# Altium schematic symbol library EL-sense_Proximity_Light_Sensors.SchLib: 2 symbols
Pins are listed as number, name and electrical type; pins without a type are passive.

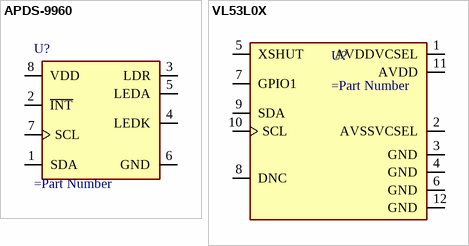
[diagram p0: symbols APDS-9960 to VL53L0X]

## APDS-9960
designator U?
pins: 1 SDA, 2 ~{INT}, 3 LDR, 4 LEDK, 5 LEDA, 6 GND, 7 SCL, 8 VDD

## VL53L0X
designator U?
pins: 1 AVDDVCSEL, 2 AVSSVCSEL, 3 GND, 4 GND, 5 XSHUT, 6 GND, 7 GPIO1, 8 DNC, 9 SDA, 10 SCL, 11 AVDD, 12 GND